# EAGLE library part MIC68220YML_TR (library sjg-pixl)
Micrel MIC68220YML TR, Dual LDO Voltage Regulator, 2A Adjustable, 0.5 5.5 V, +/-2% 20-Pin, MLF Source: Datasheet <http://uk.rs-online.com/web/p/products/7272678>
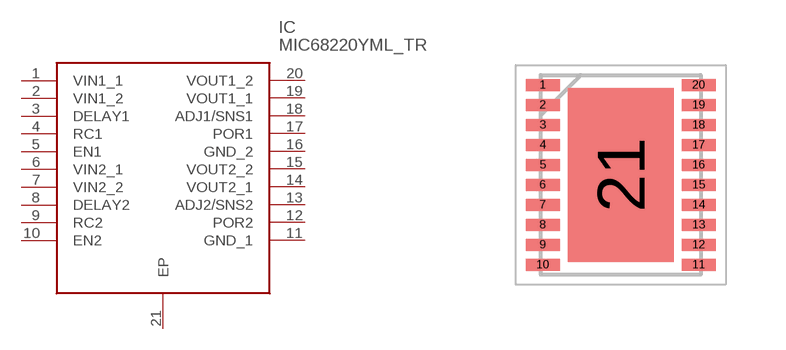
[diagram p2: symbol with the pads of SON50P400X500X90-21N; footprint SON50P400X500X90-21N]

Designator prefix IC

## MIC68220YML_TR (DESCRIPTION: Micrel MIC68220YML TR, Dual LDO Voltage Regulator, 2A Adjustable, 0.5 5.5 V, +/-2% 20-Pin, MLF; HEIGHT: 0.9mm; MANUFACTURER_NAME: Microchip; MANUFACTURER_PART_NUMBER: MIC68220YML TR)  [SON50P400X500X90-21N]
1  VIN1_1
2  VIN1_2
3  DELAY1
4  RC1
5  EN1
6  VIN2_1
7  VIN2_2
8  DELAY2
9  RC2
10  EN2
11  GND_1
12  POR2
13  ADJ2/SNS2
14  VOUT2_1
15  VOUT2_2
16  GND_2
17  POR1
18  ADJ1/SNS1
19  VOUT1_1
20  VOUT1_2
21  EP

## Footprint SON50P400X500X90-21N (pad centres in mm)
mlf20pin son
smd 0.85 x 0.3: 1 -1.95,2.25; 2 -1.95,1.75; 3 -1.95,1.25; 4 -1.95,0.75; 5 -1.95,0.25; 6 -1.95,-0.25; 7 -1.95,-0.75; 8 -1.95,-1.25; 9 -1.95,-1.75; 10 -1.95,-2.25; 11 1.95,-2.25; 12 1.95,-1.75; 13 1.95,-1.25; 14 1.95,-0.75; 15 1.95,-0.25; 16 1.95,0.25; 17 1.95,0.75; 18 1.95,1.25; 19 1.95,1.75; 20 1.95,2.25
smd 2.65 x 4.35: 21 0,0